# Altium schematic symbol library LTC2325-16.SchLib: 1 symbol
Pins are listed as number, name and electrical type; pins without a type are passive.

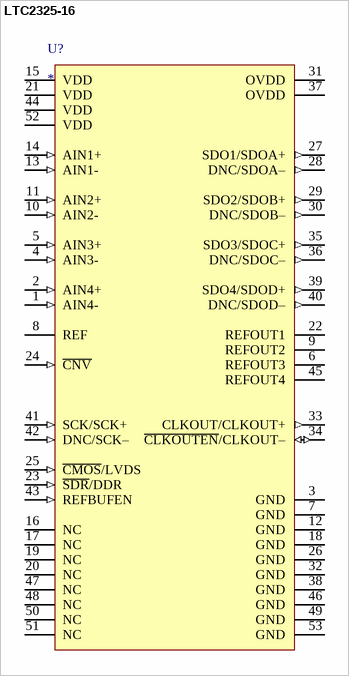
[diagram p0: symbol LTC2325-16]

## LTC2325-16
designator U?
pins: 1 AIN4- (in), 2 AIN4+ (in), 3 GND (power), 4 AIN3- (in), 5 AIN3+ (in), 6 REFOUT3, 7 GND (power), 8 REF, 9 REFOUT2, 10 AIN2- (in), 11 AIN2+ (in), 12 GND (power), 13 AIN1- (in), 14 AIN1+ (in), 15 VDD (power), 16 NC, 17 NC, 18 GND (power), 19 NC, 20 NC, 21 VDD (power), 22 REFOUT1, 23 ~{SDR}/DDR (in), 24 ~{CNV} (in), 25 ~{CMOS}/LVDS (in), 26 GND (power), 27 SDO1/SDOA+ (out), 28 DNC/SDOA– (out), 29 SDO2/SDOB+ (out), 30 DNC/SDOB– (out), 31 OVDD (power), 32 GND (power), 33 CLKOUT/CLKOUT+ (out), 34 ~{CLKOUTEN}/CLKOUT– (io), 35 SDO3/SDOC+ (out), 36 DNC/SDOC– (out), 37 OVDD (power), 38 GND (power), 39 SDO4/SDOD+ (out), 40 DNC/SDOD– (out), 41 SCK/SCK+ (in), 42 DNC/SCK– (in), 43 REFBUFEN (in), 44 VDD (power), 45 REFOUT4, 46 GND (power), 47 NC, 48 NC, 49 GND (power), 50 NC, 51 NC, 52 VDD (power), 53 GND (power)